# EAGLE library part M131-P84 (library amd-mach)
AMD MACH SERIES
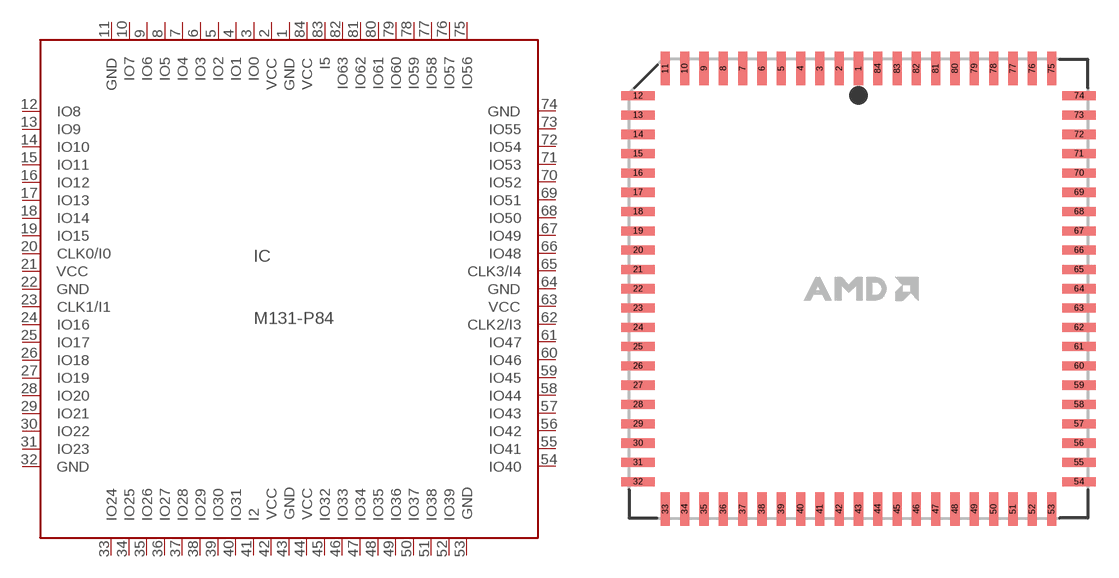
[diagram p0: symbol with the pads of PLCC84; footprint PLCC84]

Designator prefix IC

## M131-P84 (OC_FARNELL: unknown; OC_NEWARK: unknown)  [PLCC84]
1  GND  pwr
2  VCC  pwr
3  IO0
4  IO1
5  IO2
6  IO3
7  IO4
8  IO5
9  IO6
10  IO7
11  GND  pwr
12  IO8
13  IO9
14  IO10
15  IO11
16  IO12
17  IO13
18  IO14
19  IO15
20  CLK0/I0  in
21  VCC  pwr
22  GND  pwr
23  CLK1/I1  in
24  IO16
25  IO17
26  IO18
27  IO19
28  IO20
29  IO21
30  IO22
31  IO23
32  GND  pwr
33  IO24
34  IO25
35  IO26
36  IO27
37  IO28
38  IO29
39  IO30
40  IO31
41  I2  in
42  VCC  pwr
43  GND  pwr
44  VCC  pwr
45  IO32
46  IO33
47  IO34
48  IO35
49  IO36
50  IO37
51  IO38
52  IO39
53  GND  pwr
54  IO40
55  IO41
56  IO42
57  IO43
58  IO44
59  IO45
60  IO46
61  IO47
62  CLK2/I3  in
63  VCC  pwr
64  GND  pwr
65  CLK3/I4  in
66  IO48
67  IO49
68  IO50
69  IO51
70  IO52
71  IO53
72  IO54
73  IO55
74  GND  pwr
75  IO56
76  IO57
77  IO58
78  IO59
79  IO60
80  IO61
81  IO62
82  IO63
83  I5  in
84  VCC  pwr

## Footprint PLCC84 (pad centres in mm)
PLASTIC LEADED CHIP CARRIER
smd 0.6 x 2.2: 1 0,14.5; 2 -1.27,14.5; 3 -2.54,14.5; 4 -3.81,14.5; 5 -5.08,14.5; 6 -6.35,14.5; 7 -7.62,14.5; 8 -8.89,14.5; 9 -10.16,14.5; 10 -11.43,14.5; 11 -12.7,14.5; 33 -12.7,-14.5; 34 -11.43,-14.5; 35 -10.16,-14.5; 36 -8.89,-14.5; 37 -7.62,-14.5; 38 -6.35,-14.5; 39 -5.08,-14.5; 40 -3.81,-14.5; 41 -2.54,-14.5; 42 -1.27,-14.5; 43 0,-14.5; 44 1.27,-14.5; 45 2.54,-14.5; 46 3.81,-14.5; 47 5.08,-14.5; 48 6.35,-14.5; 49 7.62,-14.5; 50 8.89,-14.5; 51 10.16,-14.5; 52 11.43,-14.5; 53 12.7,-14.5; 75 12.7,14.5; 76 11.43,14.5; 77 10.16,14.5; 78 8.89,14.5; 79 7.62,14.5; 80 6.35,14.5; 81 5.08,14.5; 82 3.81,14.5; 83 2.54,14.5; 84 1.27,14.5
smd 2.2 x 0.6: 12 -14.5,12.7; 13 -14.5,11.43; 14 -14.5,10.16; 15 -14.5,8.89; 16 -14.5,7.62; 17 -14.5,6.35; 18 -14.5,5.08; 19 -14.5,3.81; 20 -14.5,2.54; 21 -14.5,1.27; 22 -14.5,0; 23 -14.5,-1.27; 24 -14.5,-2.54; 25 -14.5,-3.81; 26 -14.5,-5.08; 27 -14.5,-6.35; 28 -14.5,-7.62; 29 -14.5,-8.89; 30 -14.5,-10.16; 31 -14.5,-11.43; 32 -14.5,-12.7; 54 14.5,-12.7; 55 14.5,-11.43; 56 14.5,-10.16; 57 14.5,-8.89; 58 14.5,-7.62; 59 14.5,-6.35; 60 14.5,-5.08; 61 14.5,-3.81; 62 14.5,-2.54; 63 14.5,-1.27; 64 14.5,0; 65 14.5,1.27; 66 14.5,2.54; 67 14.5,3.81; 68 14.5,5.08; 69 14.5,6.35; 70 14.5,7.62; 71 14.5,8.89; 72 14.5,10.16; 73 14.5,11.43; 74 14.5,12.7